# Altium footprint library 5050_6.PcbLib: 1 footprints
Each footprint in its own frame and in the unit in brackets; x right, y up, seen from the top. Pads: shape width x height; smd on the part's side, far side on the other; paste and mask are expansions set on the pad; w line width, h text height; cw(c..) or ccw(c..) is an arc to the next point about the centre after c.
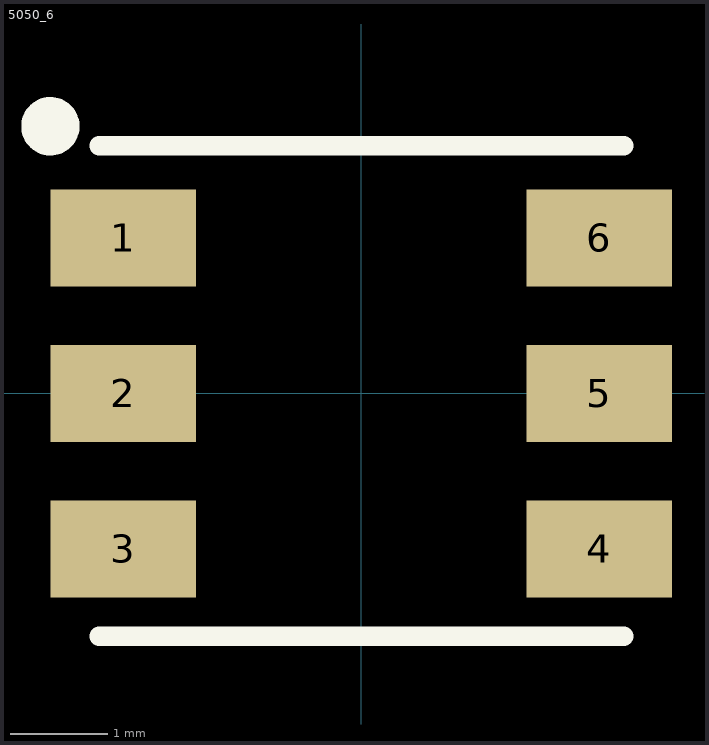
[diagram p0: the footprint, top view; thin cyan lines are the x and y axes]

## 5050_6 [mm]
pads (6):
  rect 1.5x1 smd: 1(-2.45,1.6) 2(-2.45,0) 3(-2.45,-1.6) 4(2.45,-1.6) 5(2.45,0) 6(2.45,1.6)
Top Overlay:
  circle w0.3: c-3.2,2.75 r0.15
  lines w0.2: -2.7,-2.5 2.7,-2.5 ; -2.7,2.55 2.7,2.55
3D body "11821.SLDPRT": height 1.73, standoff -0.02, extent -2.7,-2.5 2.7,2.5